# Altium footprint library UC-PCB.PcbLib: 145 footprints (part 6 of 10)
Each footprint in its own frame and in the unit in brackets; x right, y up, seen from the top. Pads: shape width x height; smd on the part's side, far side on the other; paste and mask are expansions set on the pad; w line width, h text height; cw(c..) or ccw(c..) is an arc to the next point about the centre after c.
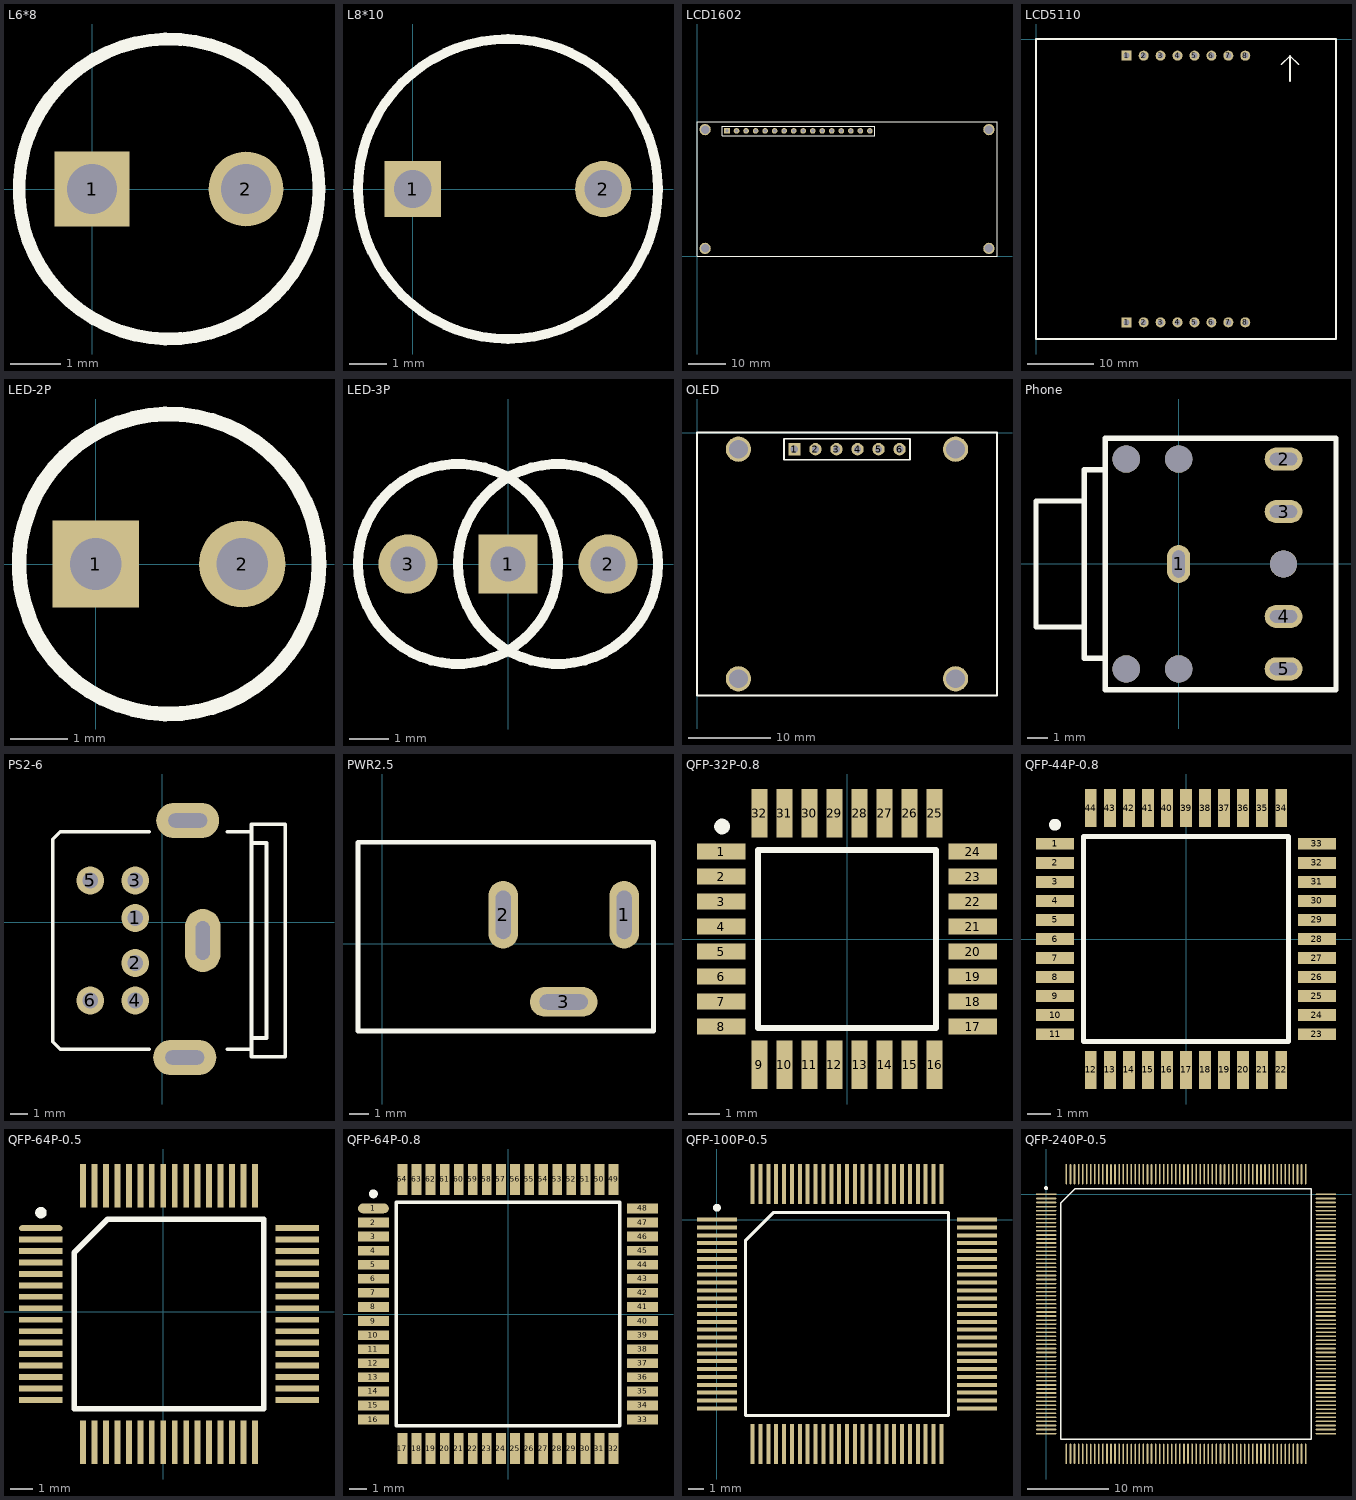
[diagram p5: the footprints below, top view; thin cyan lines are the x and y axes]

## L6*8 [mm]
pads (2):
  rect 1.5x1.5 hole 1: 1(0,0)
  round 1.5 hole 1: 2(3.08,0)
Top Overlay:
  circle w0.254: c1.54,0 r3

## L8*10 [mm]
pads (2):
  rect 1.5x1.5 hole 1: 1(0,0)
  round 1.5 hole 1: 2(5.08,0)
Top Overlay:
  circle w0.254: c2.54,0 r4

## LCD1602 [mm] "LCD1602"
pads (20):
  rect 1.5x1.5 hole 0.9: 1(8,33.5)
  round 1.5 hole 0.9: 2(10.54,33.5) 3(13.08,33.5) 4(15.62,33.5) 5(18.16,33.5) 6(20.7,33.5) 7(23.24,33.5) 8(25.78,33.5) 9(28.32,33.5) 10(30.86,33.5) 11(33.4,33.5) 12(35.94,33.5) 13(38.48,33.5) 14(41.02,33.5) 15(43.56,33.5) 16(46.1,33.5)
  round 3.048 hole 2.286: ""(2.15,2.15) ""(2.15,33.85) ""(77.85,2.15) ""(77.85,33.85)
Top Overlay:
  lines w0.254: 0,0 0,36 80,36 80,0 0,0 ; 6.73,32.23 6.73,34.77 47.37,34.77 47.37,32.23 6.73,32.23

## LCD5110 [mm]
pads (16):
  rect 1.5x1.5 hole 0.9: 1(13.61,-42.5) 1(13.61,-2.5)
  round 1.5 hole 0.9: 2(16.15,-42.5) 2(16.15,-2.5) 3(18.69,-42.5) 3(18.69,-2.5) 4(21.23,-42.5) 4(21.23,-2.5) 5(23.77,-42.5) 5(23.77,-2.5) 6(26.31,-42.5) 6(26.31,-2.5) 7(28.85,-42.5) 7(28.85,-2.5) 8(31.39,-42.5) 8(31.39,-2.5)
Top Overlay:
  lines w0.254: 36.83,-3.81 38.1,-2.54 ; 38.1,-6.35 38.1,-2.54 ; 39.37,-3.81 38.1,-2.54 ; 0,-45 45,-45 45,0 0,0 0,-45

## LED-2P [mm]
pads (2):
  rect 1.5x1.5 hole 0.9: 1(0,0)
  round 1.5 hole 0.9: 2(2.54,0)
Top Overlay:
  circle w0.254: c1.27,0 r2.6

## LED-3P [mm]
pads (3):
  rect 1.5x1.5 hole 0.9: 1(0,0)
  round 1.5 hole 0.9: 2(2.54,0) 3(-2.54,0)
Top Overlay:
  circle w0.254: c1.27,0 r2.54
  circle w0.254: c-1.27,0 r2.54

## OLED [mm]
pads (10):
  rect 1.5x1.5 hole 0.9: 1(11.78,-2)
  round 1.5 hole 0.9: 2(14.32,-2) 3(16.86,-2) 4(19.4,-2) 5(21.94,-2) 6(24.48,-2)
  round 3.048 hole 2.286: ""(5,-29.74) ""(5,-2) ""(31.26,-29.74) ""(31.26,-2)
Top Overlay:
  lines w0.2: 10.51,-3.27 10.51,-0.73 25.75,-0.73 25.75,-3.27 10.51,-3.27
  lines w0.254: 0,-31.74 36.26,-31.74 36.26,0 0,0 0,-31.74

## Phone [mm]
pads (10):
  oval 1.1x1.8 hole 0.6 slot 1.3 at 90 deg: 1(0,0)
  oval 1.8x1.1 hole 0.6 slot 1.3 at 0 deg: 2(5,5) 3(5,2.5) 4(5,-2.5) 5(5,-5)
  round 1.3 hole 1.3: ""(-2.5,-5) ""(-2.5,5) ""(0,-5) ""(0,5) ""(5,0)
Top Overlay:
  lines w0.254: -4.5,-3 -6.8,-3 -6.8,3 -4.5,3 ; -3.5,-4.5 -4.5,-4.5 -4.5,4.5 -3.5,4.5 ; -3.5,-6 7.5,-6 7.5,6 -3.5,6 -3.5,-6

## PS2-6 [mil]
pads (9):
  round 62 hole 35: 1(-60,10) 2(-60,-90) 3(-60,93.33) 4(-60,-173.33) 5(-160,93.33) 6(-160,-173.33)
  oval 140x78.74 hole 31.5 slot 86 at 0 deg: ""(50,-300) ""(56.67,226.67)
  oval 78.74x140 hole 31.5 slot 86 at 90 deg: ""(90,-40)
Top Overlay:
  lines w8: -28.5,-281.67 -226.67,-281.67 -243.33,-265 -243.33,185 -226.67,201.67 -28.5,201.67 ; 144.72,-281.67 198.33,-281.67 ; 144.72,201.67 198.33,201.67 ; 198.33,-256.67 198.33,176.67 ; 198.33,-256.67 231.67,-256.67 231.67,176.67 198.33,176.67 ; 198.33,-256.67 198.33,-298.33 273.33,-298.33 273.33,218.33 198.33,218.33 198.33,176.67

## PWR2.5 [mil]
pads (3):
  oval 61.26x140 hole 31.5 slot 100 at 90 deg: 1(500,60) 2(250,60)
  oval 140x61.26 hole 31.5 slot 100 at 0 deg: 3(375,-120)
Top Overlay:
  lines w10: -50,-180.31 560.63,-180.31 560.63,210 -50,210 -50,-180.31

## QFP-32P-0.8 [mm]
height 1.6
pads (32):
  rect 1.55x0.5 smd: 1(-4.025,2.8) 2(-4.025,2) 3(-4.025,1.2) 4(-4.025,0.4) 5(-4.025,-0.4) 6(-4.025,-1.2) 7(-4.025,-2) 8(-4.025,-2.8) 17(4.025,-2.8) 18(4.025,-2) 19(4.025,-1.2) 20(4.025,-0.4) 21(4.025,0.4) 22(4.025,1.2) 23(4.025,2) 24(4.025,2.8)
  rect 0.5x1.55 smd: 9(-2.8,-4.025) 10(-2,-4.025) 11(-1.2,-4.025) 12(-0.4,-4.025) 13(0.4,-4.025) 14(1.2,-4.025) 15(2,-4.025) 16(2.8,-4.025) 25(2.8,4.025) 26(2,4.025) 27(1.2,4.025) 28(0.4,4.025) 29(-0.4,4.025) 30(-1.2,4.025) 31(-2,4.025) 32(-2.8,4.025)
Top Overlay:
  circle w0.25: c-4,3.6 r0.125
  lines w0.2: -2.85,-2.85 2.85,-2.85 2.85,2.85 -2.85,2.85 -2.85,-2.85

## QFP-44P-0.8 [mm]
height 1.27
pads (44):
  rect 1.6x0.5 smd: 1(-5.5,4) 2(-5.5,3.2) 3(-5.5,2.4) 4(-5.5,1.6) 5(-5.5,0.8) 6(-5.5,0) 7(-5.5,-0.8) 8(-5.5,-1.6) 9(-5.5,-2.4) 10(-5.5,-3.2) 11(-5.5,-4) 23(5.5,-4) 24(5.5,-3.2) 25(5.5,-2.4) 26(5.5,-1.6) 27(5.5,-0.8) 28(5.5,0) 29(5.5,0.8) 30(5.5,1.6) 31(5.5,2.4) 32(5.5,3.2) 33(5.5,4)
  rect 0.5x1.6 smd: 12(-4,-5.5) 13(-3.2,-5.5) 14(-2.4,-5.5) 15(-1.6,-5.5) 16(-0.8,-5.5) 17(0,-5.5) 18(0.8,-5.5) 19(1.6,-5.5) 20(2.4,-5.5) 21(3.2,-5.5) 22(4,-5.5) 34(4,5.5) 35(3.2,5.5) 36(2.4,5.5) 37(1.6,5.5) 38(0.8,5.5) 39(0,5.5) 40(-0.8,5.5) 41(-1.6,5.5) 42(-2.4,5.5) 43(-3.2,5.5) 44(-4,5.5)
Top Overlay:
  circle w0.25: c-5.5,4.8 r0.125
  lines w0.2: -4.3,-4.3 -4.3,4.3 4.3,4.3 4.3,-4.3 -4.3,-4.3

## QFP-64P-0.5 [mm]
pads (64):
  oval 1.9x0.254 smd: 1(-5.338,3.646)
  rect 1.9x0.254 smd: 2(-5.338,3.146) 3(-5.338,2.646) 4(-5.338,2.146) 5(-5.338,1.646) 6(-5.338,1.146) 7(-5.338,0.646) 8(-5.338,0.146) 9(-5.338,-0.354) 10(-5.338,-0.854) 11(-5.338,-1.354) 12(-5.338,-1.854) 13(-5.338,-2.354) 14(-5.338,-2.854) 15(-5.338,-3.354) 16(-5.338,-3.854) 33(5.862,-3.854) 34(5.862,-3.354) 35(5.862,-2.854) 36(5.862,-2.354) 37(5.862,-1.854) 38(5.862,-1.354) 39(5.862,-0.854) 40(5.862,-0.354) 41(5.862,0.146) 42(5.862,0.646) 43(5.862,1.146) 44(5.862,1.646) 45(5.862,2.146) 46(5.862,2.646) 47(5.862,3.146) 48(5.862,3.646)
  rect 0.254x1.9 smd: 17(-3.488,-5.704) 18(-2.988,-5.704) 19(-2.488,-5.704) 20(-1.988,-5.704) 21(-1.488,-5.704) 22(-0.988,-5.704) 23(-0.488,-5.704) 24(0.012,-5.704) 25(0.512,-5.704) 26(1.012,-5.704) 27(1.512,-5.704) 28(2.012,-5.704) 29(2.512,-5.704) 30(3.012,-5.704) 31(3.512,-5.704) 32(4.012,-5.704) 49(4.012,5.496) 50(3.512,5.496) 51(3.012,5.496) 52(2.512,5.496) 53(2.012,5.496) 54(1.512,5.496) 55(1.012,5.496) 56(0.512,5.496) 57(0.012,5.496) 58(-0.488,5.496) 59(-0.988,5.496) 60(-1.488,5.496) 61(-1.988,5.496) 62(-2.488,5.496) 63(-2.988,5.496) 64(-3.488,5.496)
Top Overlay:
  circle w0.25: c-5.332,4.318 r0.125
  lines w0.25: -3.878,-4.244 4.402,-4.244 4.402,4.036 -2.418,4.036 -3.878,2.576 -3.878,-4.244

## QFP-64P-0.8 [mm]
pads (64):
  oval 1.75x0.55 smd: 1(-7.65,6)
  rect 1.75x0.55 smd: 2(-7.65,5.2) 3(-7.65,4.4) 4(-7.65,3.6) 5(-7.65,2.8) 6(-7.65,2) 7(-7.65,1.2) 8(-7.65,0.4) 9(-7.65,-0.4) 10(-7.65,-1.2) 11(-7.65,-2) 12(-7.65,-2.8) 13(-7.65,-3.6) 14(-7.65,-4.4) 15(-7.65,-5.2) 16(-7.65,-6) 33(7.65,-6) 34(7.65,-5.2) 35(7.65,-4.4) 36(7.65,-3.6) 37(7.65,-2.8) 38(7.65,-2) 39(7.65,-1.2) 40(7.65,-0.4) 41(7.65,0.4) 42(7.65,1.2) 43(7.65,2) 44(7.65,2.8) 45(7.65,3.6) 46(7.65,4.4) 47(7.65,5.2) 48(7.65,6)
  rect 0.55x1.75 smd: 17(-6,-7.65) 18(-5.2,-7.65) 19(-4.4,-7.65) 20(-3.6,-7.65) 21(-2.8,-7.65) 22(-2,-7.65) 23(-1.2,-7.65) 24(-0.4,-7.65) 25(0.4,-7.65) 26(1.2,-7.65) 27(2,-7.65) 28(2.8,-7.65) 29(3.6,-7.65) 30(4.4,-7.65) 31(5.2,-7.65) 32(6,-7.65) 49(6,7.65) 50(5.2,7.65) 51(4.4,7.65) 52(3.6,7.65) 53(2.8,7.65) 54(2,7.65) 55(1.2,7.65) 56(0.4,7.65) 57(-0.4,7.65) 58(-1.2,7.65) 59(-2,7.65) 60(-2.8,7.65) 61(-3.6,7.65) 62(-4.4,7.65) 63(-5.2,7.65) 64(-6,7.65)
Top Overlay:
  circle w0.25: c-7.65,6.825 r0.125
  lines w0.2: -6.35,-6.35 6.35,-6.35 6.35,6.35 -6.35,6.35 -6.35,-6.35

## QFP-100P-0.5 [mm]
pads (100):
  rect 2.54x0.254 smd: 1(0,0) 2(0,-0.5) 3(0,-1) 4(0,-1.5) 5(0,-2) 6(0,-2.5) 7(0,-3) 8(0,-3.5) 9(0,-4) 10(0,-4.5) 11(0,-5) 12(0,-5.5) 13(0,-6) 14(0,-6.5) 15(0,-7) 16(0,-7.5) 17(0,-8) 18(0,-8.5) 19(0,-9) 20(0,-9.5) 21(0,-10) 22(0,-10.5) 23(0,-11) 24(0,-11.5) 25(0,-12) 51(16.54,-12) 52(16.54,-11.5) 53(16.54,-11) 54(16.54,-10.5) 55(16.54,-10) 56(16.54,-9.5) 57(16.54,-9) 58(16.54,-8.5) 59(16.54,-8) 60(16.54,-7.5) 61(16.54,-7) 62(16.54,-6.5) 63(16.54,-6) 64(16.54,-5.5) 65(16.54,-5) 66(16.54,-4.5) 67(16.54,-4) 68(16.54,-3.5) 69(16.54,-3) 70(16.54,-2.5) 71(16.54,-2) 72(16.54,-1.5) 73(16.54,-1) 74(16.54,-0.5) 75(16.54,0)
  rect 0.254x2.54 smd: 26(2.27,-14.27) 27(2.77,-14.27) 28(3.27,-14.27) 29(3.77,-14.27) 30(4.27,-14.27) 31(4.77,-14.27) 32(5.27,-14.27) 33(5.77,-14.27) 34(6.27,-14.27) 35(6.77,-14.27) 36(7.27,-14.27) 37(7.77,-14.27) 38(8.27,-14.27) 39(8.77,-14.27) 40(9.27,-14.27) 41(9.77,-14.27) 42(10.27,-14.27) 43(10.77,-14.27) 44(11.27,-14.27) 45(11.77,-14.27) 46(12.27,-14.27) 47(12.77,-14.27) 48(13.27,-14.27) 49(13.77,-14.27) 50(14.27,-14.27) 76(14.27,2.27) 77(13.77,2.27) 78(13.27,2.27) 79(12.77,2.27) 80(12.27,2.27) 81(11.77,2.27) 82(11.27,2.27) 83(10.77,2.27) 84(10.27,2.27) 85(9.77,2.27) 86(9.27,2.27) 87(8.77,2.27) 88(8.27,2.27) 89(7.77,2.27) 90(7.27,2.27) 91(6.77,2.27) 92(6.27,2.27) 93(5.77,2.27) 94(5.27,2.27) 95(4.77,2.27) 96(4.27,2.27) 97(3.77,2.27) 98(3.27,2.27) 99(2.77,2.27) 100(2.27,2.27)
Top Overlay:
  circle w0.25: c-0.005,0.754 r0.125
  lines w0.2: 1.805,-12.465 14.735,-12.465 14.735,0.465 3.61,0.465 1.805,-1.34 1.805,-12.465

## QFP-240P-0.5 [mm]
pads (240):
  rect 2.5x0.2 smd: 1(0,0)
  oval 2.5x0.2 smd: 2(0,-0.5) 3(0,-1) 4(0,-1.5) 5(0,-2) 6(0,-2.5) 7(0,-3) 8(0,-3.5) 9(0,-4) 10(0,-4.5) 11(0,-5) 12(0,-5.5) 13(0,-6) 14(0,-6.5) 15(0,-7) 16(0,-7.5) 17(0,-8) 18(0,-8.5) 19(0,-9) 20(0,-9.5) 21(0,-10) 22(0,-10.5) 23(0,-11) 24(0,-11.5) 25(0,-12) 26(0,-12.5) 27(0,-13) 28(0,-13.5) 29(0,-14) 30(0,-14.5) 31(0,-15) 32(0,-15.5) 33(0,-16) 34(0,-16.5) 35(0,-17) 36(0,-17.5) 37(0,-18) 38(0,-18.5) 39(0,-19) 40(0,-19.5) 41(0,-20) 42(0,-20.5) 43(0,-21) 44(0,-21.5) 45(0,-22) 46(0,-22.5) 47(0,-23) 48(0,-23.5) 49(0,-24) 50(0,-24.5) 51(0,-25) 52(0,-25.5) 53(0,-26) 54(0,-26.5) 55(0,-27) 56(0,-27.5) 57(0,-28) 58(0,-28.5) 59(0,-29) 60(0,-29.5) 121(34.5,-29.5) 122(34.5,-29) 123(34.5,-28.5) 124(34.5,-28) 125(34.5,-27.5) 126(34.5,-27) 127(34.5,-26.5) 128(34.5,-26) 129(34.5,-25.5) 130(34.5,-25) 131(34.5,-24.5) 132(34.5,-24) 133(34.5,-23.5) 134(34.5,-23) 135(34.5,-22.5) 136(34.5,-22) 137(34.5,-21.5) 138(34.5,-21) 139(34.5,-20.5) 140(34.5,-20) 141(34.5,-19.5) 142(34.5,-19) 143(34.5,-18.5) 144(34.5,-18) 145(34.5,-17.5) 146(34.5,-17) 147(34.5,-16.5) 148(34.5,-16) 149(34.5,-15.5) 150(34.5,-15) 151(34.5,-14.5) 152(34.5,-14) 153(34.5,-13.5) 154(34.5,-13) 155(34.5,-12.5) 156(34.5,-12) 157(34.5,-11.5) 158(34.5,-11) 159(34.5,-10.5) 160(34.5,-10) 161(34.5,-9.5) 162(34.5,-9) 163(34.5,-8.5) 164(34.5,-8) 165(34.5,-7.5) 166(34.5,-7) 167(34.5,-6.5) 168(34.5,-6) 169(34.5,-5.5) 170(34.5,-5) 171(34.5,-4.5) 172(34.5,-4) 173(34.5,-3.5) 174(34.5,-3) 175(34.5,-2.5) 176(34.5,-2) 177(34.5,-1.5) 178(34.5,-1) 179(34.5,-0.5) 180(34.5,0)
  oval 0.2x2.5 smd: 61(2.5,-32) 62(3,-32) 63(3.5,-32) 64(4,-32) 65(4.5,-32) 66(5,-32) 67(5.5,-32) 68(6,-32) 69(6.5,-32) 70(7,-32) 71(7.5,-32) 72(8,-32) 73(8.5,-32) 74(9,-32) 75(9.5,-32) 76(10,-32) 77(10.5,-32) 78(11,-32) 79(11.5,-32) 80(12,-32) 81(12.5,-32) 82(13,-32) 83(13.5,-32) 84(14,-32) 85(14.5,-32) 86(15,-32) 87(15.5,-32) 88(16,-32) 89(16.5,-32) 90(17,-32) 91(17.5,-32) 92(18,-32) 93(18.5,-32) 94(19,-32) 95(19.5,-32) 96(20,-32) 97(20.5,-32) 98(21,-32) 99(21.5,-32) 100(22,-32) 101(22.5,-32) 102(23,-32) 103(23.5,-32) 104(24,-32) 105(24.5,-32) 106(25,-32) 107(25.5,-32) 108(26,-32) 109(26.5,-32) 110(27,-32) 111(27.5,-32) 112(28,-32) 113(28.5,-32) 114(29,-32) 115(29.5,-32) 116(30,-32) 117(30.5,-32) 118(31,-32) 119(31.5,-32) 120(32,-32) 181(32,2.5) 182(31.5,2.5) 183(31,2.5) 184(30.5,2.5) 185(30,2.5) 186(29.5,2.5) 187(29,2.5) 188(28.5,2.5) 189(28,2.5) 190(27.5,2.5) 191(27,2.5) 192(26.5,2.5) 193(26,2.5) 194(25.5,2.5) 195(25,2.5) 196(24.5,2.5) 197(24,2.5) 198(23.5,2.5) 199(23,2.5) 200(22.5,2.5) 201(22,2.5) 202(21.5,2.5) 203(21,2.5) 204(20.5,2.5) 205(20,2.5) 206(19.5,2.5) 207(19,2.5) 208(18.5,2.5) 209(18,2.5) 210(17.5,2.5) 211(17,2.5) 212(16.5,2.5) 213(16,2.5) 214(15.5,2.5) 215(15,2.5) 216(14.5,2.5) 217(14,2.5) 218(13.5,2.5) 219(13,2.5) 220(12.5,2.5) 221(12,2.5) 222(11.5,2.5) 223(11,2.5) 224(10.5,2.5) 225(10,2.5) 226(9.5,2.5) 227(9,2.5) 228(8.5,2.5) 229(8,2.5) 230(7.5,2.5) 231(7,2.5) 232(6.5,2.5) 233(6,2.5) 234(5.5,2.5) 235(5,2.5) 236(4.5,2.5) 237(4,2.5) 238(3.5,2.5) 239(3,2.5) 240(2.5,2.5)
Top Overlay:
  circle w0.25: c-0.005,0.78 r0.125
  lines w0.203: 1.785,-30.215 32.715,-30.215 32.715,0.715 3.57,0.715 1.785,-1.07 1.785,-30.215